# Altium schematic symbol library WE-MAPI_2510.SchLib: 13 symbols
Pins are listed as number, name and electrical type; pins without a type are passive.

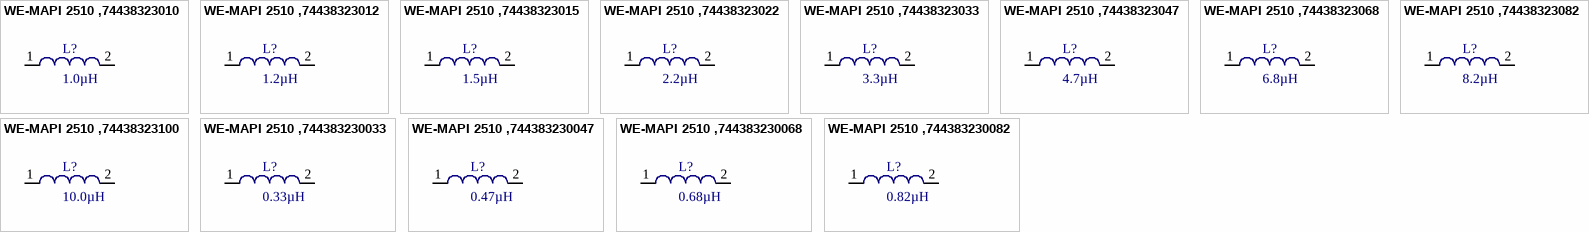
[diagram p0: symbols WE-MAPI 2510 ,74438323010 to WE-MAPI 2510 ,744383230082]

## WE-MAPI 2510 ,74438323010
designator L?, comment 1.0µH
Power Multilayer Inductor WE-MAPI, L=1.0µH; partNo: 74438323010; Manufacturer: Würth Elektronik eiSos GmbH; Inductance: 1.0µH; ComponentLink1Description: Manufacturer; ComponentLink1URL: http://www.we-online.de; Created by: Otto Christin; Created Date: Nov 2013; ComponentLink2Description: Datasheet; ComponentLink2URL: http://katalog.we-online.de/kataloge/eisos/media/pdf/74438323010.pdf
footprint WE-MAPI 2510 (Chip Inductor, 2-Leads, Body 2.5x2.0mm, IPC Medium Density)
pins: 1, 2

## WE-MAPI 2510 ,74438323012
designator L?, comment 1.2µH
Power Multilayer Inductor WE-MAPI, L=1.2µH; partNo: 74438323012; Manufacturer: Würth Elektronik eiSos GmbH; Inductance: 1.2µH; ComponentLink1Description: Manufacturer; ComponentLink1URL: http://www.we-online.de; Created by: Otto Christin; Created Date: Nov 2013; ComponentLink2Description: Datasheet; ComponentLink2URL: http://katalog.we-online.de/kataloge/eisos/media/pdf/74438323012.pdf
footprint WE-MAPI 2510 (Chip Inductor, 2-Leads, Body 2.5x2.0mm, IPC Medium Density)
pins: 1, 2

## WE-MAPI 2510 ,74438323015
designator L?, comment 1.5µH
Power Multilayer Inductor WE-MAPI, L=1.5µH; partNo: 74438323015; Manufacturer: Würth Elektronik eiSos GmbH; Inductance: 1.5µH; ComponentLink1Description: Manufacturer; ComponentLink1URL: http://www.we-online.de; Created by: Otto Christin; Created Date: Nov 2013; ComponentLink2Description: Datasheet; ComponentLink2URL: http://katalog.we-online.de/kataloge/eisos/media/pdf/74438323015.pdf
footprint WE-MAPI 2510 (Chip Inductor, 2-Leads, Body 2.5x2.0mm, IPC Medium Density)
pins: 1, 2

## WE-MAPI 2510 ,74438323022
designator L?, comment 2.2µH
Power Multilayer Inductor WE-MAPI, L=2.2µH; partNo: 74438323022; Manufacturer: Würth Elektronik eiSos GmbH; Inductance: 2.2µH; ComponentLink1Description: Manufacturer; ComponentLink1URL: http://www.we-online.de; Created by: Otto Christin; Created Date: Nov 2013; ComponentLink2Description: Datasheet; ComponentLink2URL: http://katalog.we-online.de/kataloge/eisos/media/pdf/74438323022.pdf
footprint WE-MAPI 2510 (Chip Inductor, 2-Leads, Body 2.5x2.0mm, IPC Medium Density)
pins: 1, 2

## WE-MAPI 2510 ,74438323033
designator L?, comment 3.3µH
Power Multilayer Inductor WE-MAPI, L=3.3µH; partNo: 74438323033; Manufacturer: Würth Elektronik eiSos GmbH; Inductance: 3.3µH; ComponentLink1Description: Manufacturer; ComponentLink1URL: http://www.we-online.de; Created by: Otto Christin; Created Date: Nov 2013; ComponentLink2Description: Datasheet; ComponentLink2URL: http://katalog.we-online.de/kataloge/eisos/media/pdf/74438323033.pdf
footprint WE-MAPI 2510 (Chip Inductor, 2-Leads, Body 2.5x2.0mm, IPC Medium Density)
pins: 1, 2

## WE-MAPI 2510 ,74438323047
designator L?, comment 4.7µH
Power Multilayer Inductor WE-MAPI, L=4.7µH; partNo: 74438323047; Manufacturer: Würth Elektronik eiSos GmbH; Inductance: 4.7µH; ComponentLink1Description: Manufacturer; ComponentLink1URL: http://www.we-online.de; Created by: Otto Christin; Created Date: Nov 2013; ComponentLink2Description: Datasheet; ComponentLink2URL: http://katalog.we-online.de/kataloge/eisos/media/pdf/74438323047.pdf
footprint WE-MAPI 2510 (Chip Inductor, 2-Leads, Body 2.5x2.0mm, IPC Medium Density)
pins: 1, 2

## WE-MAPI 2510 ,74438323068
designator L?, comment 6.8µH
Power Multilayer Inductor WE-MAPI, L=6.8µH; partNo: 74438323068; Manufacturer: Würth Elektronik eiSos GmbH; Inductance: 6.8µH; ComponentLink1Description: Manufacturer; ComponentLink1URL: http://www.we-online.de; Created by: Otto Christin; Created Date: Nov 2013; ComponentLink2Description: Datasheet; ComponentLink2URL: http://katalog.we-online.de/kataloge/eisos/media/pdf/74438323068.pdf
footprint WE-MAPI 2510 (Chip Inductor, 2-Leads, Body 2.5x2.0mm, IPC Medium Density)
pins: 1, 2

## WE-MAPI 2510 ,74438323082
designator L?, comment 8.2µH
Power Multilayer Inductor WE-MAPI, L=8.2µH; partNo: 74438323082; Manufacturer: Würth Elektronik eiSos GmbH; Inductance: 8.2µH; ComponentLink1Description: Manufacturer; ComponentLink1URL: http://www.we-online.de; Created by: Otto Christin; Created Date: Nov 2013; ComponentLink2Description: Datasheet; ComponentLink2URL: http://katalog.we-online.de/kataloge/eisos/media/pdf/74438323082.pdf
footprint WE-MAPI 2510 (Chip Inductor, 2-Leads, Body 2.5x2.0mm, IPC Medium Density)
pins: 1, 2

## WE-MAPI 2510 ,74438323100
designator L?, comment 10.0µH
Power Multilayer Inductor WE-MAPI, L=10.0µH; partNo: 74438323100; Manufacturer: Würth Elektronik eiSos GmbH; Inductance: 10.0µH; ComponentLink1Description: Manufacturer; ComponentLink1URL: http://www.we-online.de; Created by: Otto Christin; Created Date: Nov 2013; ComponentLink2Description: Datasheet; ComponentLink2URL: http://katalog.we-online.de/kataloge/eisos/media/pdf/74438323100.pdf
footprint WE-MAPI 2510 (Chip Inductor, 2-Leads, Body 2.5x2.0mm, IPC Medium Density)
pins: 1, 2

## WE-MAPI 2510 ,744383230033
designator L?, comment 0.33µH
Power Multilayer Inductor WE-MAPI, L=0.33µH; partNo: 744383230033; Manufacturer: Würth Elektronik eiSos GmbH; Inductance: 0.33µH; ComponentLink1Description: Manufacturer; ComponentLink1URL: http://www.we-online.de; Created by: Otto Christin; Created Date: Nov 2013; ComponentLink2Description: Datasheet; ComponentLink2URL: http://katalog.we-online.de/kataloge/eisos/media/pdf/744383230033.pdf
footprint WE-MAPI 2510 (Chip Inductor, 2-Leads, Body 2.5x2.0mm, IPC Medium Density)
pins: 1, 2

## WE-MAPI 2510 ,744383230047
designator L?, comment 0.47µH
Power Multilayer Inductor WE-MAPI, L=0.47µH; partNo: 744383230047; Manufacturer: Würth Elektronik eiSos GmbH; Inductance: 0.47µH; ComponentLink1Description: Manufacturer; ComponentLink1URL: http://www.we-online.de; Created by: Otto Christin; Created Date: Nov 2013; ComponentLink2Description: Datasheet; ComponentLink2URL: http://katalog.we-online.de/kataloge/eisos/media/pdf/744383230047.pdf
footprint WE-MAPI 2510 (Chip Inductor, 2-Leads, Body 2.5x2.0mm, IPC Medium Density)
pins: 1, 2

## WE-MAPI 2510 ,744383230068
designator L?, comment 0.68µH
Power Multilayer Inductor WE-MAPI, L=0.68µH; partNo: 744383230068; Manufacturer: Würth Elektronik eiSos GmbH; Inductance: 0.68µH; ComponentLink1Description: Manufacturer; ComponentLink1URL: http://www.we-online.de; Created by: Otto Christin; Created Date: Nov 2013; ComponentLink2Description: Datasheet; ComponentLink2URL: http://katalog.we-online.de/kataloge/eisos/media/pdf/744383230068.pdf
footprint WE-MAPI 2510 (Chip Inductor, 2-Leads, Body 2.5x2.0mm, IPC Medium Density)
pins: 1, 2

## WE-MAPI 2510 ,744383230082
designator L?, comment 0.82µH
Power Multilayer Inductor WE-MAPI, L=0.82µH; partNo: 744383230082; Manufacturer: Würth Elektronik eiSos GmbH; Inductance: 0.82µH; ComponentLink1Description: Manufacturer; ComponentLink1URL: http://www.we-online.de; Created by: Otto Christin; Created Date: Nov 2013; ComponentLink2Description: Datasheet; ComponentLink2URL: http://katalog.we-online.de/kataloge/eisos/media/pdf/744383230082.pdf
footprint WE-MAPI 2510 (Chip Inductor, 2-Leads, Body 2.5x2.0mm, IPC Medium Density)
pins: 1, 2